# Altium footprint library InvestiGator.PcbLib: 5 footprints
Each footprint in its own frame and in the unit in brackets; x right, y up, seen from the top. Pads: shape width x height; smd on the part's side, far side on the other; paste and mask are expansions set on the pad; w line width, h text height; cw(c..) or ccw(c..) is an arc to the next point about the centre after c.
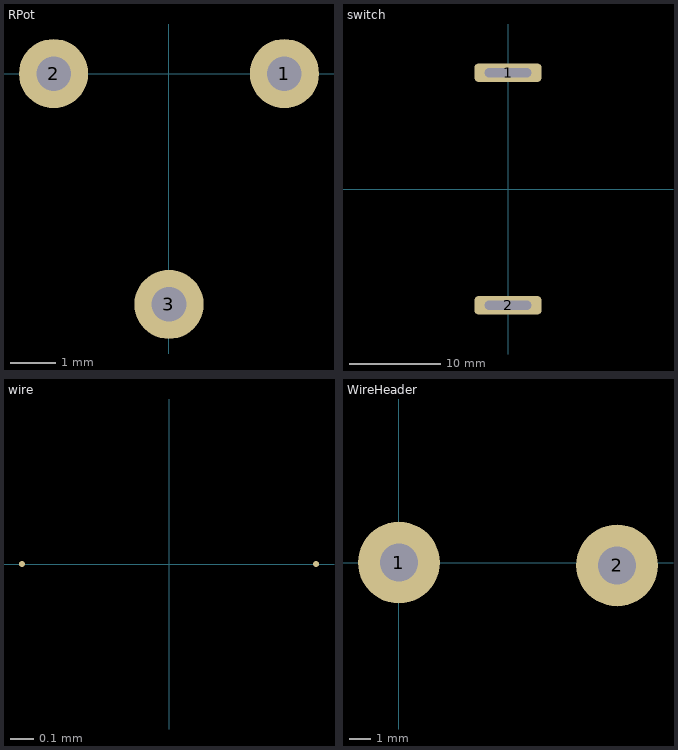
[diagram p0: the footprints below, top view; thin cyan lines are the x and y axes]

## PCBComponent_1 [mil]

## RPot [mil]
pads (3):
  round 60 hole 30: 1(100,0) 2(-100,0) 3(0,-200)

## switch [mil]
pads (2):
  rrect50% 290x80 hole 40 slot 200 at 0 deg: 1(0,500) 2(0,-500)

## wire [mil]
pads (2):
  round 1 all layers, no hole: 1(-25,0) 2(25,0)
Multi-Layer:
  lines w20: -25,0 25,0

## WireHeader [mil]
pads (2):
  round 150 hole 70: 1(0,0) 2(400,-5)